# EAGLE library part INA219 (library pimoroni)
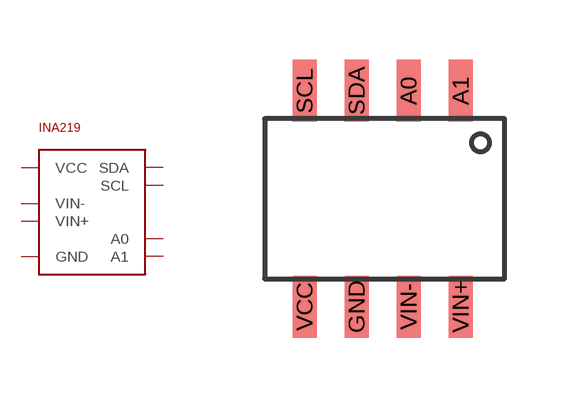
[diagram p48: symbol with the pads of INA219; footprint INA219]

Designator prefix -

## INA219  [INA219]
A0  A0
A1  A1
GND  GND
SCL  SCL
SDA  SDA
VCC  VCC
VIN+  VIN+
VIN-  VIN-

## Footprint INA219 (pad centres in mm)
smd 0.6 x 1.55: A0 0.6,2.7; A1 1.9,2.7; GND -0.7,-2.7; SCL -2,2.7; SDA -0.7,2.7; VCC -2,-2.7; VIN+ 1.9,-2.7; VIN- 0.6,-2.7